# Altium schematic symbol library Schlib1.SchLib: 13 symbols
Pins are listed as number, name and electrical type; pins without a type are passive.

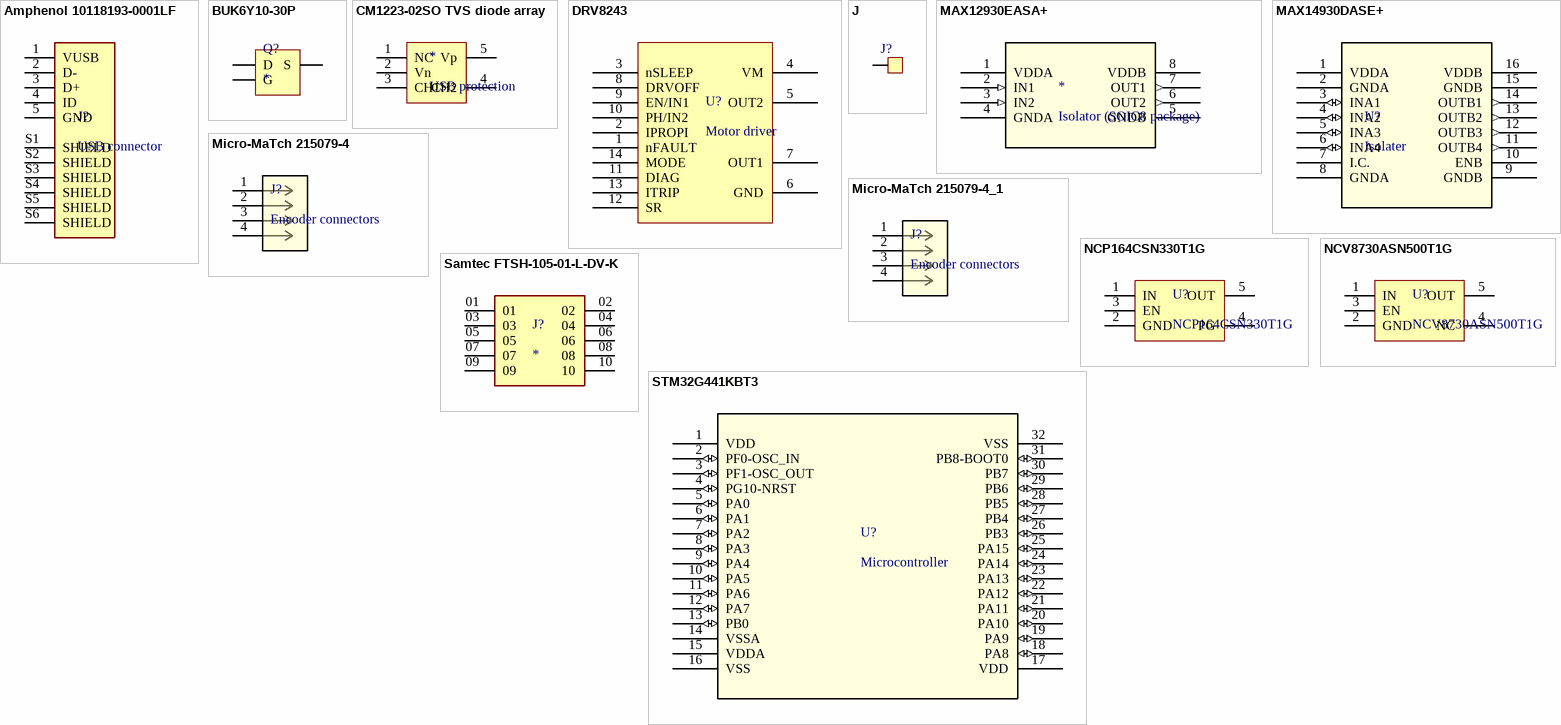
[diagram p0: symbols Amphenol 10118193-0001LF to STM32G441KBT3]

## Amphenol 10118193-0001LF
designator J?, comment USB connector
footprint Amphenol 10118193-0001LF (USB connector)
pins: 1 VUSB, 2 D-, 3 D+, 4 ID, 5 GND, S1 SHIELD, S2 SHIELD, S3 SHIELD, S4 SHIELD, S5 SHIELD, S6 SHIELD

## BUK6Y10-30P
designator Q?
Reverse voltage protection
footprint BUK6Y10-30P
pins: D, G, S

## CM1223-02SO TVS diode array
designator *, comment USB protection
footprint CM1223-02SO
pins: 1 NC, 2 Vn, 3 CH1, 4 CH2, 5 Vp

## DRV8243
designator U?, comment Motor driver
DRV8243-Q1 Automotive H-Bridge Driver with Integrated Current Sense and Diagnostics
footprint DRV8243
pins: 1 nFAULT, 2 IPROPI, 3 nSLEEP, 4 VM, 5 OUT2, 6 GND, 7 OUT1, 8 DRVOFF, 9 EN/IN1, 10 PH/IN2, 11 DIAG, 12 SR, 13 ITRIP, 14 MODE

## J
designator J?
footprint J
pins: 1

## MAX12930EASA+
designator *, comment Isolator (SOIC8 package)
Optional component when additional signals need to be isolated.
pins: 1 VDDA (power), 2 IN1 (in), 3 IN2 (in), 4 GNDA, 5 GNDB, 6 OUT2 (out), 7 OUT1 (out), 8 VDDB (power)

## MAX14930DASE+
designator U?, comment Isolater
Signals between the microcontroller and motor drivers should go through isolator(s).
footprint MAX14930DASE+
pins: 1 VDDA (power), 2 GNDA, 3 INA1 (io), 4 INA2 (io), 5 INA3 (io), 6 INA4 (io), 7 I.C., 8 GNDA, 9 GNDB, 10 ENB, 11 OUTB4 (out), 12 OUTB3 (out), 13 OUTB2 (out), 14 OUTB1 (out), 15 GNDB, 16 VDDB (power)

## Micro-MaTch 215079-4
designator J?, comment Encoder connectors
footprint Micro-MaTch 215079-4
pins: 1, 2, 3, 4

## Micro-MaTch 215079-4_1
designator J?, comment Encoder connectors
footprint Micro-MaTch 215079-4
pins: 1, 2, 3, 4

## NCP164CSN330T1G
designator U?
Input: 5V from USB. / Output: 3.3V, >200mA / For powering the microcontroller, encoders, isolators.
footprint NCV8730ASN500T1G
pins: 1 IN, 2 GND, 3 EN, 4 PG, 5 OUT

## NCV8730ASN500T1G
designator U?
Input: 4S battery voltage (up to 16.8V) / Output: 5V, >50mA / For powering the isolators, driver pullup resistors.
footprint NCV8730ASN500T1G
pins: 1 IN, 2 GND, 3 EN, 4 NC, 5 OUT

## Samtec FTSH-105-01-L-DV-K
designator J?
Programmer connector
footprint Samtec FTSH-105-01-L-DV-K
pins: 01, 02, 03, 04, 05, 06, 07, 08, 09, 10

## STM32G441KBT3
designator U?, comment Microcontroller
footprint STM32G441KB (Microcontroller)
pins: 1 VDD (power), 2 PF0-OSC_IN (io), 3 PF1-OSC_OUT (io), 4 PG10-NRST (io), 5 PA0 (io), 6 PA1 (io), 7 PA2 (io), 8 PA3 (io), 9 PA4 (io), 10 PA5 (io), 11 PA6 (io), 12 PA7 (io), 13 PB0 (io), 14 VSSA, 15 VDDA (power), 16 VSS, 17 VDD (power), 18 PA8 (io), 19 PA9 (io), 20 PA10 (io), 21 PA11 (io), 22 PA12 (io), 23 PA13 (io), 24 PA14 (io), 25 PA15 (io), 26 PB3 (io), 27 PB4 (io), 28 PB5 (io), 29 PB6 (io), 30 PB7 (io), 31 PB8-BOOT0 (io), 32 VSS